# Altium footprint library Resistor_THT.PcbLib: 104 footprints (part 1 of 7)
Each footprint in its own frame and in the unit in brackets; x right, y up, seen from the top. Pads: shape width x height; smd on the part's side, far side on the other; paste and mask are expansions set on the pad; w line width, h text height; cw(c..) or ccw(c..) is an arc to the next point about the centre after c.
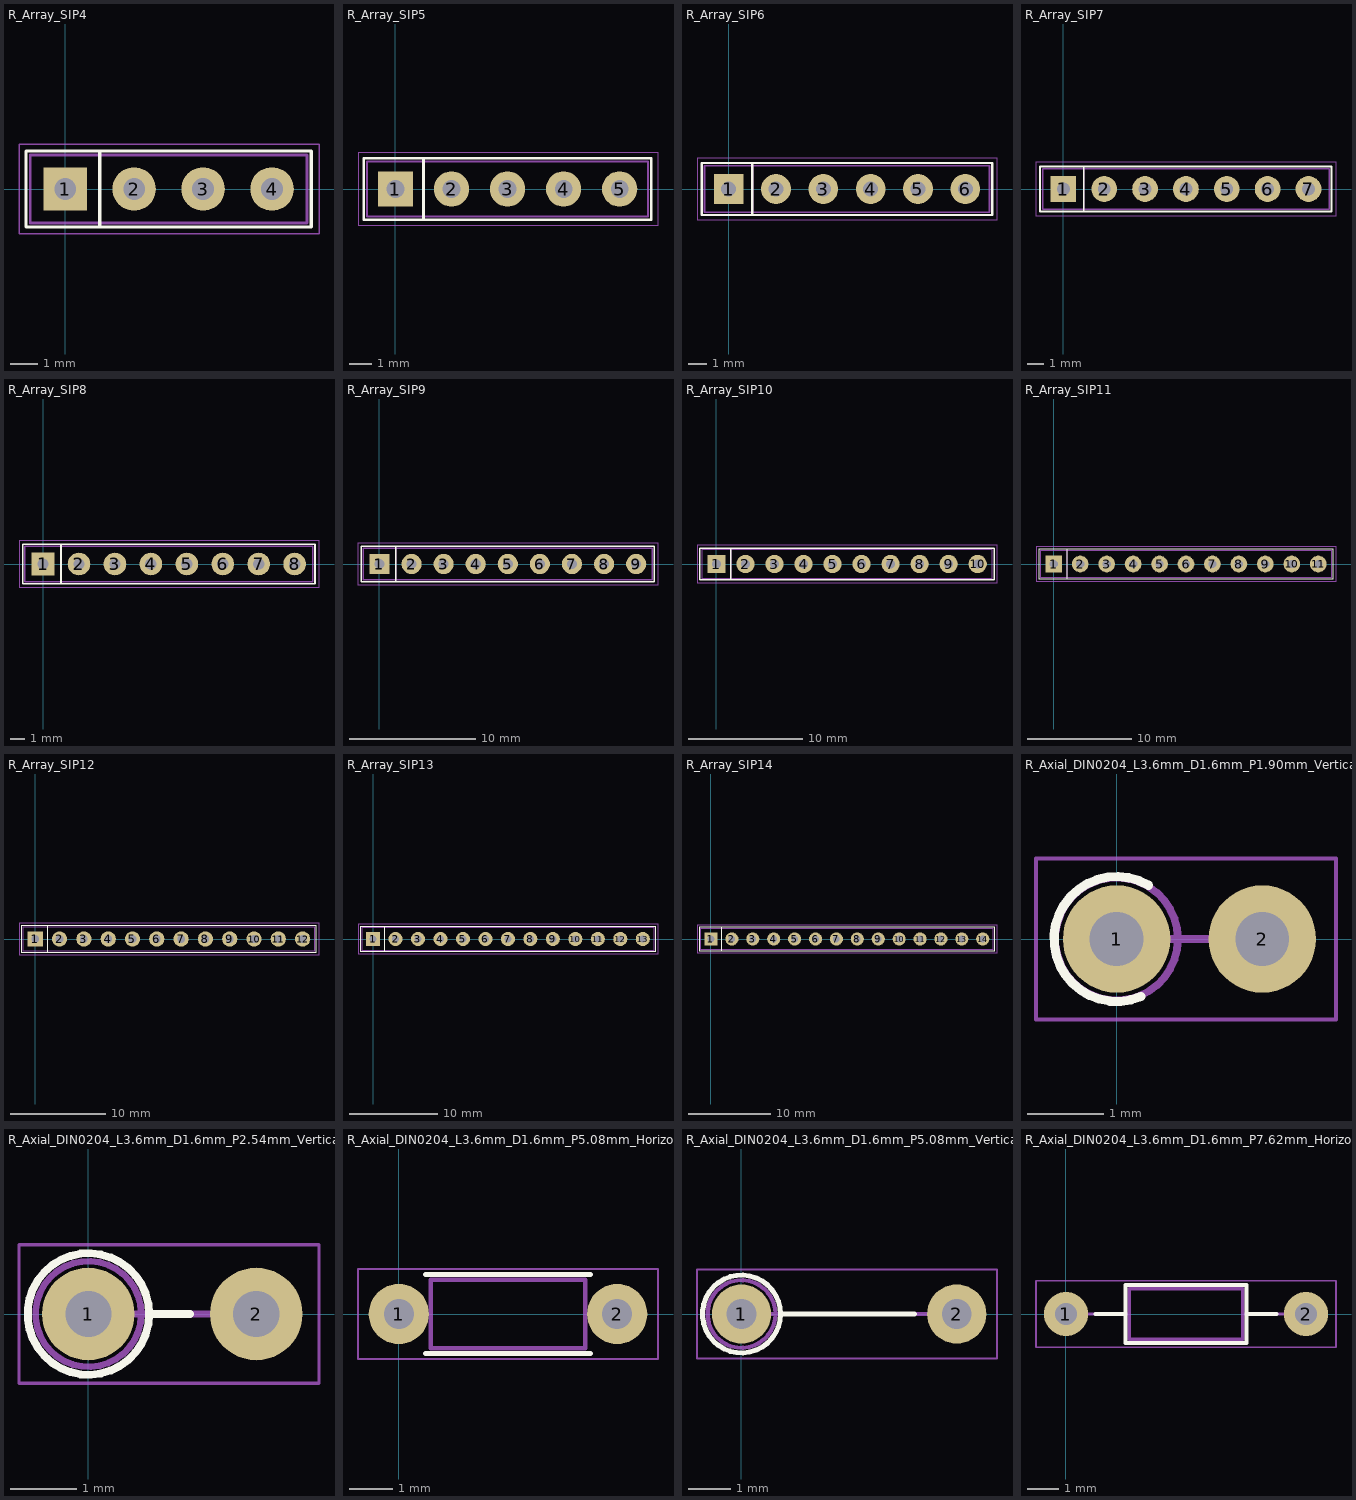
[diagram p0: the footprints below, top view; thin cyan lines are the x and y axes]

## R_Array_SIP4 [mm]
pads (4):
  rect 1.6x1.6 hole 0.8: 1(0,0)
  rrect100% 1.6x1.6 hole 0.8: 2(2.54,0) 3(5.08,0) 4(7.62,0)
F.SilkS:
  lines w0.12: 1.27,-1.4 1.27,1.4 ; -1.44,-1.4 9.06,-1.4 9.06,1.4 -1.44,1.4 -1.44,-1.4
F.CrtYd:
  lines w0.05: -1.7,-1.65 9.35,-1.65 9.35,1.65 -1.7,1.65 -1.7,-1.65
F.Fab:
  lines w0.1: 1.27,-1.25 1.27,1.25 ; -1.29,-1.25 8.91,-1.25 8.91,1.25 -1.29,1.25 -1.29,-1.25
  text "'.Designator'" at -0.237,-0.84 h1

## R_Array_SIP5 [mm]
pads (5):
  rect 1.6x1.6 hole 0.8: 1(0,0)
  rrect100% 1.6x1.6 hole 0.8: 2(2.54,0) 3(5.08,0) 4(7.62,0) 5(10.16,0)
F.SilkS:
  lines w0.12: 1.27,-1.4 1.27,1.4 ; -1.44,-1.4 -1.44,1.4 11.6,1.4 11.6,-1.4 -1.44,-1.4
F.CrtYd:
  lines w0.05: -1.7,-1.65 -1.7,1.65 11.9,1.65 11.9,-1.65 -1.7,-1.65
F.Fab:
  lines w0.1: 1.27,-1.25 1.27,1.25 ; -1.29,-1.25 -1.29,1.25 11.45,1.25 11.45,-1.25 -1.29,-1.25
  text "'.Designator'" at 1.033,-0.84 h1

## R_Array_SIP6 [mm]
pads (6):
  rect 1.6x1.6 hole 0.8: 1(0,0)
  rrect100% 1.6x1.6 hole 0.8: 2(2.54,0) 3(5.08,0) 4(7.62,0) 5(10.16,0) 6(12.7,0)
F.SilkS:
  lines w0.12: 1.27,-1.4 1.27,1.4 ; -1.44,-1.4 14.14,-1.4 14.14,1.4 -1.44,1.4 -1.44,-1.4
F.CrtYd:
  lines w0.05: -1.7,-1.65 14.4,-1.65 14.4,1.65 -1.7,1.65 -1.7,-1.65
F.Fab:
  lines w0.1: 1.27,-1.25 1.27,1.25 ; -1.29,-1.25 13.99,-1.25 13.99,1.25 -1.29,1.25 -1.29,-1.25
  text "'.Designator'" at 2.303,-0.84 h1

## R_Array_SIP7 [mm]
pads (7):
  rect 1.6x1.6 hole 0.8: 1(0,0)
  rrect100% 1.6x1.6 hole 0.8: 2(2.54,0) 3(5.08,0) 4(7.62,0) 5(10.16,0) 6(12.7,0) 7(15.24,0)
F.SilkS:
  lines w0.12: 1.27,-1.4 1.27,1.4 ; -1.44,-1.4 -1.44,1.4 16.68,1.4 16.68,-1.4 -1.44,-1.4
F.CrtYd:
  lines w0.05: -1.7,-1.65 16.95,-1.65 16.95,1.65 -1.7,1.65 -1.7,-1.65
F.Fab:
  lines w0.1: 1.27,-1.25 1.27,1.25 ; -1.29,-1.25 16.53,-1.25 16.53,1.25 -1.29,1.25 -1.29,-1.25
  text "'.Designator'" at 3.573,-0.84 h1

## R_Array_SIP8 [mm]
pads (8):
  rect 1.6x1.6 hole 0.8: 1(0,0)
  rrect100% 1.6x1.6 hole 0.8: 2(2.54,0) 3(5.08,0) 4(7.62,0) 5(10.16,0) 6(12.7,0) 7(15.24,0) 8(17.78,0)
F.SilkS:
  lines w0.12: 1.27,-1.4 1.27,1.4 ; -1.44,-1.4 19.22,-1.4 19.22,1.4 -1.44,1.4 -1.44,-1.4
F.CrtYd:
  lines w0.05: -1.7,-1.65 -1.7,1.65 19.5,1.65 19.5,-1.65 -1.7,-1.65
F.Fab:
  lines w0.1: 1.27,-1.25 1.27,1.25 ; -1.29,-1.25 19.07,-1.25 19.07,1.25 -1.29,1.25 -1.29,-1.25
  text "'.Designator'" at 4.843,-0.84 h1

## R_Array_SIP9 [mm]
pads (9):
  rect 1.6x1.6 hole 0.8: 1(0,0)
  rrect100% 1.6x1.6 hole 0.8: 2(2.54,0) 3(5.08,0) 4(7.62,0) 5(10.16,0) 6(12.7,0) 7(15.24,0) 8(17.78,0) 9(20.32,0)
F.SilkS:
  lines w0.12: 1.27,-1.4 1.27,1.4 ; -1.44,-1.4 21.76,-1.4 21.76,1.4 -1.44,1.4 -1.44,-1.4
F.CrtYd:
  lines w0.05: -1.7,-1.65 -1.7,1.65 22.05,1.65 22.05,-1.65 -1.7,-1.65
F.Fab:
  lines w0.1: 1.27,-1.25 1.27,1.25 ; -1.29,-1.25 -1.29,1.25 21.61,1.25 21.61,-1.25 -1.29,-1.25
  text "'.Designator'" at 6.113,-0.84 h1

## R_Array_SIP10 [mm]
pads (10):
  rect 1.6x1.6 hole 0.8: 1(0,0)
  rrect100% 1.6x1.6 hole 0.8: 2(2.54,0) 3(5.08,0) 4(7.62,0) 5(10.16,0) 6(12.7,0) 7(15.24,0) 8(17.78,0) 9(20.32,0) 10(22.86,0)
F.SilkS:
  lines w0.12: 1.27,-1.4 1.27,1.4 ; -1.44,-1.4 24.3,-1.4 24.3,1.4 -1.44,1.4 -1.44,-1.4
F.CrtYd:
  lines w0.05: -1.7,-1.65 24.55,-1.65 24.55,1.65 -1.7,1.65 -1.7,-1.65
F.Fab:
  lines w0.1: 1.27,-1.25 1.27,1.25 ; -1.29,-1.25 24.15,-1.25 24.15,1.25 -1.29,1.25 -1.29,-1.25
  text "'.Designator'" at 7.383,-0.84 h1

## R_Array_SIP11 [mm]
pads (11):
  rect 1.6x1.6 hole 0.8: 1(0,0)
  rrect100% 1.6x1.6 hole 0.8: 2(2.54,0) 3(5.08,0) 4(7.62,0) 5(10.16,0) 6(12.7,0) 7(15.24,0) 8(17.78,0) 9(20.32,0) 10(22.86,0) 11(25.4,0)
F.SilkS:
  lines w0.12: 1.27,-1.4 1.27,1.4 ; -1.44,-1.4 26.84,-1.4 26.84,1.4 -1.44,1.4 -1.44,-1.4
F.CrtYd:
  lines w0.05: -1.7,-1.65 -1.7,1.65 27.1,1.65 27.1,-1.65 -1.7,-1.65
F.Fab:
  lines w0.1: 1.27,-1.25 1.27,1.25 ; -1.29,-1.25 -1.29,1.25 26.69,1.25 26.69,-1.25 -1.29,-1.25
  text "'.Designator'" at 8.653,-0.84 h1

## R_Array_SIP12 [mm]
pads (12):
  rect 1.6x1.6 hole 0.8: 1(0,0)
  rrect100% 1.6x1.6 hole 0.8: 2(2.54,0) 3(5.08,0) 4(7.62,0) 5(10.16,0) 6(12.7,0) 7(15.24,0) 8(17.78,0) 9(20.32,0) 10(22.86,0) 11(25.4,0) 12(27.94,0)
F.SilkS:
  lines w0.12: 1.27,-1.4 1.27,1.4 ; -1.44,-1.4 29.38,-1.4 29.38,1.4 -1.44,1.4 -1.44,-1.4
F.CrtYd:
  lines w0.05: -1.7,-1.65 -1.7,1.65 29.65,1.65 29.65,-1.65 -1.7,-1.65
F.Fab:
  lines w0.1: 1.27,-1.25 1.27,1.25 ; -1.29,-1.25 -1.29,1.25 29.23,1.25 29.23,-1.25 -1.29,-1.25
  text "'.Designator'" at 9.923,-0.84 h1

## R_Array_SIP13 [mm]
pads (13):
  rect 1.6x1.6 hole 0.8: 1(0,0)
  rrect100% 1.6x1.6 hole 0.8: 2(2.54,0) 3(5.08,0) 4(7.62,0) 5(10.16,0) 6(12.7,0) 7(15.24,0) 8(17.78,0) 9(20.32,0) 10(22.86,0) 11(25.4,0) 12(27.94,0) 13(30.48,0)
F.SilkS:
  lines w0.12: 1.27,-1.4 1.27,1.4 ; -1.44,-1.4 -1.44,1.4 31.92,1.4 31.92,-1.4 -1.44,-1.4
F.CrtYd:
  lines w0.05: -1.7,-1.65 32.2,-1.65 32.2,1.65 -1.7,1.65 -1.7,-1.65
F.Fab:
  lines w0.1: 1.27,-1.25 1.27,1.25 ; -1.29,-1.25 31.77,-1.25 31.77,1.25 -1.29,1.25 -1.29,-1.25
  text "'.Designator'" at 11.193,-0.84 h1

## R_Array_SIP14 [mm]
pads (14):
  rect 1.6x1.6 hole 0.8: 1(0,0)
  rrect100% 1.6x1.6 hole 0.8: 2(2.54,0) 3(5.08,0) 4(7.62,0) 5(10.16,0) 6(12.7,0) 7(15.24,0) 8(17.78,0) 9(20.32,0) 10(22.86,0) 11(25.4,0) 12(27.94,0) 13(30.48,0) 14(33.02,0)
F.SilkS:
  lines w0.12: 1.27,-1.4 1.27,1.4 ; -1.44,-1.4 34.46,-1.4 34.46,1.4 -1.44,1.4 -1.44,-1.4
F.CrtYd:
  lines w0.05: -1.7,-1.65 -1.7,1.65 34.75,1.65 34.75,-1.65 -1.7,-1.65
F.Fab:
  lines w0.1: 1.27,-1.25 1.27,1.25 ; -1.29,-1.25 34.31,-1.25 34.31,1.25 -1.29,1.25 -1.29,-1.25
  text "'.Designator'" at 12.463,-0.84 h1

## R_Axial_DIN0204_L3.6mm_D1.6mm_P1.90mm_Vertical [mm]
pads (2):
  round 1.4 hole 0.7: 1(0,0)
  rrect100% 1.4x1.4 hole 0.7: 2(1.9,0)
F.SilkS:
  lines w0.12: 0.32,-0.749 cw(c0,0) 0.417,0.7
F.CrtYd:
  lines w0.05: -1.05,-1.05 2.86,-1.05 2.86,1.05 -1.05,1.05 -1.05,-1.05
F.Fab:
  circle w0.1: c0,0 r0.8
  lines w0.1: 0,0 1.9,0
  text "'.Designator'" at -3.097,1.08 h1

## R_Axial_DIN0204_L3.6mm_D1.6mm_P2.54mm_Vertical [mm]
pads (2):
  round 1.4 hole 0.7: 1(0,0)
  rrect100% 1.4x1.4 hole 0.7: 2(2.54,0)
F.SilkS:
  circle w0.12: c0,0 r0.92
  lines w0.12: 0.92,0 1.54,0
F.CrtYd:
  lines w0.05: -1.05,-1.05 3.49,-1.05 3.49,1.05 -1.05,1.05 -1.05,-1.05
F.Fab:
  circle w0.1: c0,0 r0.8
  lines w0.1: 0,0 2.54,0
  text "'.Designator'" at -2.777,1.08 h1

## R_Axial_DIN0204_L3.6mm_D1.6mm_P5.08mm_Horizontal [mm]
pads (2):
  round 1.4 hole 0.7: 1(0,0)
  rrect100% 1.4x1.4 hole 0.7: 2(5.08,0)
F.SilkS:
  lines w0.12: 0.62,-0.92 4.46,-0.92 ; 0.62,0.92 4.46,0.92
F.CrtYd:
  lines w0.05: -0.95,-1.05 -0.95,1.05 6.03,1.05 6.03,-1.05 -0.95,-1.05
F.Fab:
  lines w0.1: 0,0 0.74,0 ; 4.34,0 5.08,0 ; 0.74,-0.8 0.74,0.8 4.34,0.8 4.34,-0.8 0.74,-0.8
  text "'.Designator'" at -0.374,-0.605 h0.72

## R_Axial_DIN0204_L3.6mm_D1.6mm_P5.08mm_Vertical [mm]
pads (2):
  round 1.4 hole 0.7: 1(0,0)
  rrect100% 1.4x1.4 hole 0.7: 2(5.08,0)
F.SilkS:
  circle w0.12: c0,0 r0.92
  lines w0.12: 0.92,0 4.08,0
F.CrtYd:
  lines w0.05: -1.05,-1.05 -1.05,1.05 6.03,1.05 6.03,-1.05 -1.05,-1.05
F.Fab:
  circle w0.1: c0,0 r0.8
  lines w0.1: 0,0 5.08,0
  text "'.Designator'" at -1.507,1.08 h1

## R_Axial_DIN0204_L3.6mm_D1.6mm_P7.62mm_Horizontal [mm]
pads (2):
  round 1.4 hole 0.7: 1(0,0)
  rrect100% 1.4x1.4 hole 0.7: 2(7.62,0)
F.SilkS:
  lines w0.12: 0.94,0 1.89,0 ; 5.73,0 6.68,0 ; 1.89,-0.92 5.73,-0.92 5.73,0.92 1.89,0.92 1.89,-0.92
F.CrtYd:
  lines w0.05: -0.95,-1.05 8.57,-1.05 8.57,1.05 -0.95,1.05 -0.95,-1.05
F.Fab:
  lines w0.1: 0,0 2.01,0 ; 5.61,0 7.62,0 ; 2.01,-0.8 2.01,0.8 5.61,0.8 5.61,-0.8 2.01,-0.8
  text "'.Designator'" at 0.896,-0.605 h0.72